# Altium footprint library RD_PCB_TEST1.PcbLib: 37 footprints (part 3 of 3)
Each footprint in its own frame and in the unit in brackets; x right, y up, seen from the top. Pads: shape width x height; smd on the part's side, far side on the other; paste and mask are expansions set on the pad; w line width, h text height; cw(c..) or ccw(c..) is an arc to the next point about the centre after c.
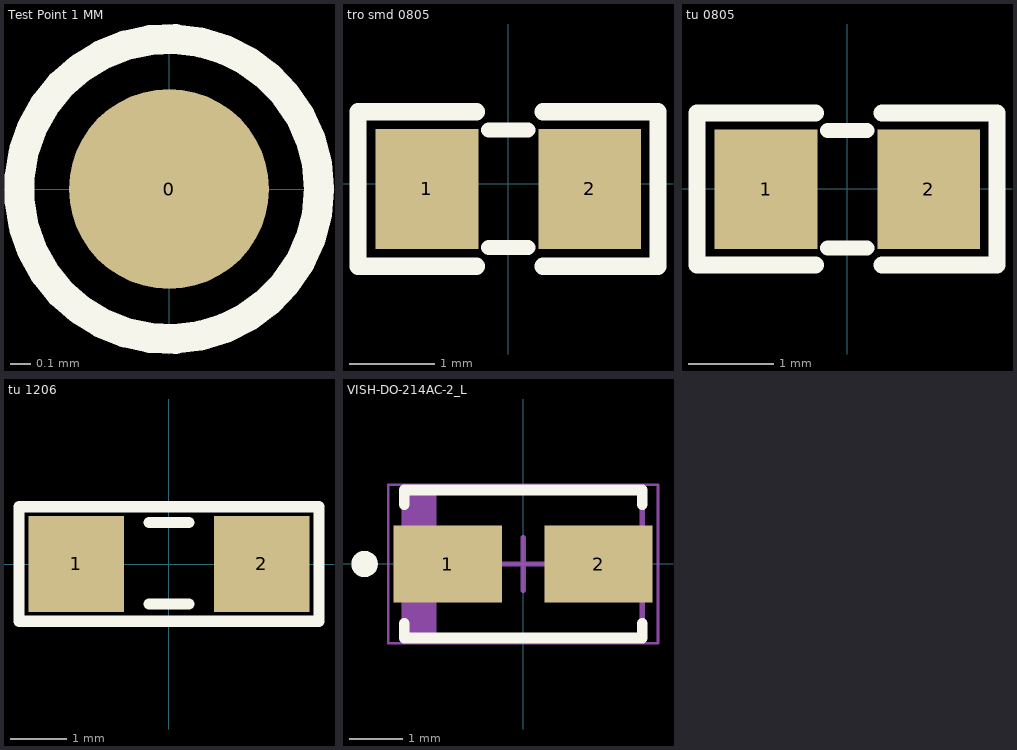
[diagram p2: the footprints below, top view; thin cyan lines are the x and y axes]

## Test Point 1 MM [mm] "Test Point 1 MM"
height 14.2
pads (1):
  round 1 smd: 0(0,0)
Top Overlay:
  circle w0.15: c0,0 r0.75

## tro smd 0805 [mm]
height 2
pads (2):
  rect 1.2x1.4 smd: 1(-0.946,-0.061) 2(0.954,-0.061)
Top Overlay:
  lines w0.178: -0.224,-0.747 0.233,-0.747 ; -0.224,0.625 0.233,0.625
  lines w0.2: -0.367,-0.965 -1.75,-0.965 -1.75,0.838 -0.367,0.838 ; 0.408,-0.965 1.75,-0.965 1.75,0.838 0.408,0.838
3D body "Tro 0805.STEP": height 0.53, standoff 0, extent -1.562,-0.763 1.438,0.637

## tu 0805 [mm] "Compoment SMD 80x50mil"
height 1.27
pads (2):
  rect 1.2x1.4 smd: 1(-0.946,-0.003) 2(0.954,-0.003)
Top Overlay:
  lines w0.178: -0.224,-0.689 0.233,-0.689 ; -0.224,0.682 0.233,0.682
  lines w0.2: -0.367,-0.889 -1.753,-0.889 -1.753,0.889 -0.367,0.889 ; 0.408,-0.889 1.753,-0.889 1.753,0.889 0.408,0.889
3D body "SW3dPS-smt_resistor_packages.STEP": height 0.61, standoff -0.01, extent -1.006,-0.638 1.014,0.632

## tu 1206 [mm]
pads (2):
  rect 1.7x1.7 smd: 1(-1.65,0) 2(1.65,0)
Top Overlay:
  lines w0.2: -0.356,-0.711 0.356,-0.711 ; -0.356,0.737 0.356,0.737 ; -2.667,-1.016 -2.667,1.016 2.667,1.016 2.667,-0.483 2.667,-1.016 -2.667,-1.016
3D body "capacitor 1206.step": height 0.94, standoff 0, extent -1.575,-0.8 1.625,0.8

## VISH-DO-214AC-2_L [mm] "DO-214AC, 2-Leads, Body 4.5x2.79mm, IPC High Density"
height 2.29
pads (2):
  rect 2.05x1.45 smd: 1(-1.425,0) 2(1.425,0)
Top Overlay:
  circle w0.25: c-3,0 r0.125
  lines w0.2: -2.25,-1.125 -2.25,-1.4 2.25,-1.4 2.25,-1.125 ; -2.25,1.125 -2.25,1.4 2.25,1.4 2.25,1.125
Top 3D Body:
  rectangle: -2.25,-1.395 -1.645,1.395
  lines w0.1: -2.25,-1.395 2.25,-1.395 2.25,1.395 -2.25,1.395 -2.25,-1.395
Top Courtyard:
  lines w0.05: -2.55,-1.5 2.55,-1.5 2.55,1.5 -2.55,1.5 -2.55,-1.5
  lines w0.1: -0.5,0 0.5,0 ; 0,-0.5 0,0.5
3D body: height 2.29, standoff 0, extent -2.25,-1.395 2.25,1.395